# Altium footprint library TE_5145154-4.PcbLib: 1 footprints
Each footprint in its own frame and in the unit in brackets; x right, y up, seen from the top. Pads: shape width x height; smd on the part's side, far side on the other; paste and mask are expansions set on the pad; w line width, h text height; cw(c..) or ccw(c..) is an arc to the next point about the centre after c.
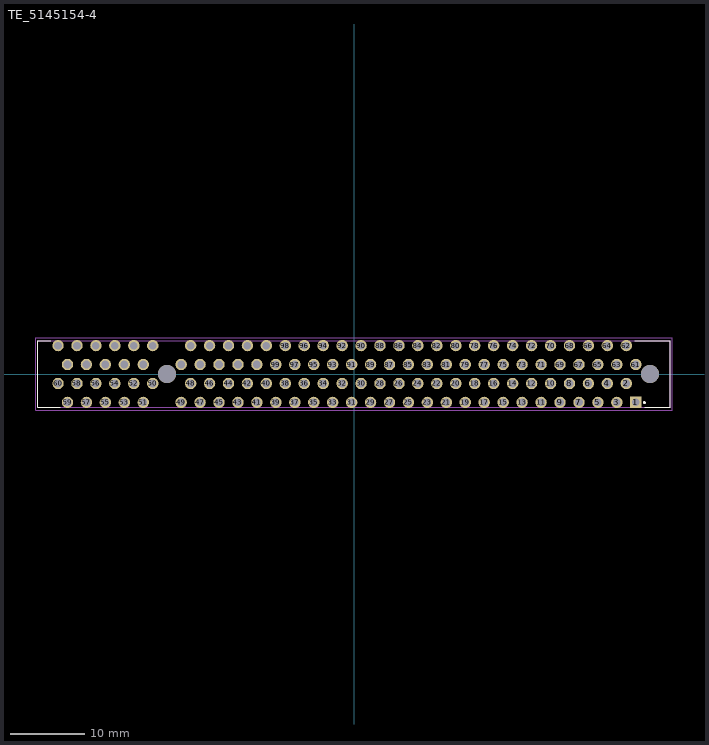
[diagram p0: the footprint, top view; thin cyan lines are the x and y axes]

## TE_5145154-4 [mm]
pads (122):
  rect 1.53x1.53 / inner round 1.53 / far side rect 1.53x1.53 hole 1.02: 1(37.79,-3.81)
  round 1.53 hole 1.02: 2(36.52,-1.27) 3(35.25,-3.81) 4(33.98,-1.27) 5(32.71,-3.81) 6(31.44,-1.27) 7(30.17,-3.81) 8(28.9,-1.27) 9(27.63,-3.81) 10(26.36,-1.27) 11(25.09,-3.81) 12(23.81,-1.27) 13(22.54,-3.81) 14(21.27,-1.27) 15(20,-3.81) 16(18.73,-1.27) 17(17.46,-3.81) 18(16.19,-1.27) 19(14.92,-3.81) 20(13.65,-1.27) 21(12.38,-3.81) 22(11.11,-1.27) 23(9.84,-3.81) 24(8.57,-1.27) 25(7.3,-3.81) 26(6.03,-1.27) 27(4.76,-3.81) 28(3.49,-1.27) 29(2.22,-3.81) 30(0.95,-1.27) 31(-0.32,-3.81) 32(-1.59,-1.27) 33(-2.86,-3.81) 34(-4.13,-1.27) 35(-5.4,-3.81) 36(-6.67,-1.27) 37(-7.94,-3.81) 38(-9.21,-1.27) 39(-10.48,-3.81) 40(-11.75,-1.27) 41(-13.02,-3.81) 42(-14.29,-1.27) 43(-15.56,-3.81) 44(-16.83,-1.27) 45(-18.1,-3.81) 46(-19.37,-1.27) 47(-20.64,-3.81) 48(-21.91,-1.27) 49(-23.18,-3.81) 50(-26.99,-1.27) 51(-28.26,-3.81) 52(-29.53,-1.27) 53(-30.8,-3.81) 54(-32.07,-1.27) 55(-33.34,-3.81) 56(-34.61,-1.27) 57(-35.88,-3.81) 58(-37.15,-1.27) 59(-38.42,-3.81) 60(-39.69,-1.27) 61(37.79,1.27) 62(36.52,3.81) 63(35.25,1.27) 64(33.98,3.81) 65(32.71,1.27) 66(31.44,3.81) 67(30.17,1.27) 68(28.9,3.81) 69(27.63,1.27) 70(26.36,3.81) 71(25.09,1.27) 72(23.81,3.81) 73(22.54,1.27) 74(21.27,3.81) 75(20,1.27) 76(18.73,3.81) 77(17.46,1.27) 78(16.19,3.81) 79(14.92,1.27) 80(13.65,3.81) 81(12.38,1.27) 82(11.11,3.81) 83(9.84,1.27) 84(8.57,3.81) 85(7.3,1.27) 86(6.03,3.81) 87(4.76,1.27) 88(3.49,3.81) 89(2.22,1.27) 90(0.95,3.81) 91(-0.32,1.27) 92(-1.59,3.81) 93(-2.86,1.27) 94(-4.13,3.81) 95(-5.4,1.27) 96(-6.67,3.81) 97(-7.94,1.27) 98(-9.21,3.81) 99(-10.48,1.27) 100(-11.75,3.81) 101(-13.02,1.27) 102(-14.29,3.81) 103(-15.56,1.27) 104(-16.83,3.81) 105(-18.1,1.27) 106(-19.37,3.81) 107(-20.64,1.27) 108(-21.91,3.81) 109(-23.18,1.27) 110(-26.99,3.81) 111(-28.26,1.27) 112(-29.53,3.81) 113(-30.8,1.27) 114(-32.07,3.81) 115(-33.34,1.27) 116(-34.61,3.81) 117(-35.88,1.27) 118(-37.15,3.81) 119(-38.42,1.27) 120(-39.69,3.81)
  round 2.44 hole 2.44 unplated: ""(-25.08,0) ""(39.69,0)
Top Overlay:
  circle w0.2: c38.946,-3.827 r0.1
  lines w0.127: -40.65,4.45 -42.42,4.45 -42.42,-4.45 -39.4,-4.45 ; 37.65,4.45 42.42,4.45 42.42,-4.45 39,-4.45
Assembly Top:
  lines w0.127: -42.42,-4.445 42.42,-4.445 42.42,4.445 -42.42,4.445 -42.42,-4.445
Courtyard Top:
  lines w0.05: -42.67,-4.83 -42.67,4.83 42.67,4.83 42.67,-4.83 -42.67,-4.83
3D body "step_temp.STEP": height 4.44, standoff -4.44, extent -42.418,0 42.418,20.13